# EAGLE library part SI1016CX-T1-GE3 (library Vishay)
Complementary N- and P-Channel 20 V (D-S) MOSFET
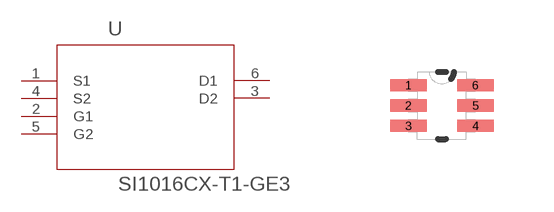
[diagram p72: symbol with the pads of SOT50P162X60-6N; footprint SOT50P162X60-6N]

Designator prefix U

## SI1016CX-T1-GE3 (MPN: SI1016CX-T1-GE3; OC_FARNELL: 2056711; OC_NEWARK: 64T4049; PACKAGE: SOT-5; SUPPLIER: VISHAY SILICONIX)  [SOT50P162X60-6N]
1  S1  pas
2  G1  pas
3  D2  pas
4  S2  pas
5  G2  pas
6  D1  pas

## Footprint SOT50P162X60-6N (pad centres in mm)
smd 0.914 x 0.305: 1 -0.838,0.508; 2 -0.838,0; 3 -0.838,-0.508; 4 0.838,-0.508; 5 0.838,0; 6 0.838,0.508